# Altium footprint library HEADER-2x7.PcbLib: 1 footprints
Each footprint in its own frame and in the unit in brackets; x right, y up, seen from the top. Pads: shape width x height; smd on the part's side, far side on the other; paste and mask are expansions set on the pad; w line width, h text height; cw(c..) or ccw(c..) is an arc to the next point about the centre after c.
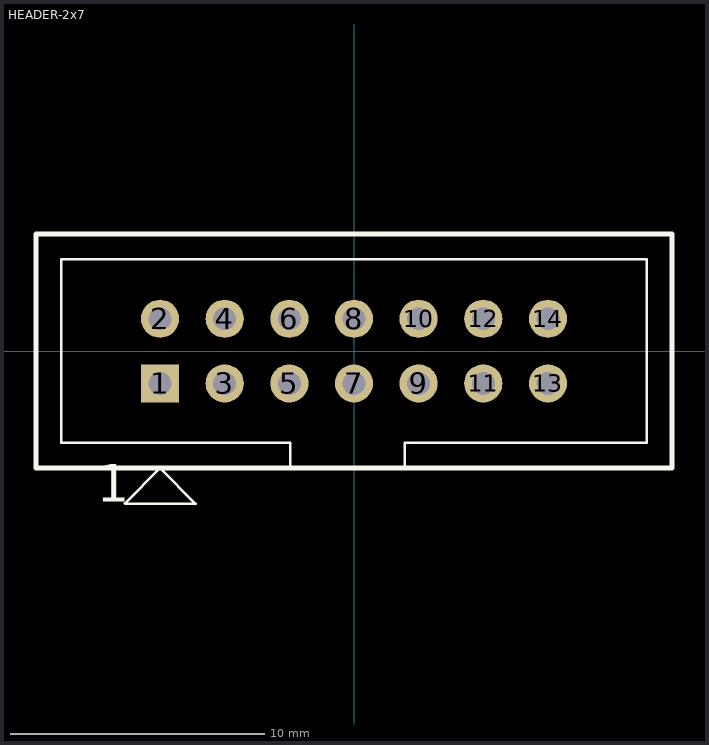
[diagram p0: the footprint, top view; thin cyan lines are the x and y axes]

## HEADER-2x7 [mm] "Header 2.54mm pitch, 2x7 Positions"
height 9.3
pads (14):
  rect 1.5x1.5 hole 0.9: 1(-7.62,-1.27)
  round 1.5 hole 0.9: 2(-7.62,1.27) 3(-5.08,-1.27) 4(-5.08,1.27) 5(-2.54,-1.27) 6(-2.54,1.27) 7(0,-1.27) 8(0,1.27) 9(2.54,-1.27) 10(2.54,1.27) 11(5.08,-1.27) 12(5.08,1.27) 13(7.62,-1.27) 14(7.62,1.27)
Top Overlay:
  lines w0.102: -9,-5.98 -7.62,-4.6 -6.22,-6 -8.98,-6 ; -2.5,-4.6 -2.5,-3.6 -11.5,-3.6 -11.5,3.6 11.5,3.6 11.5,-3.6 2,-3.6 2,-4.6 ; -1.5,-4.6 4.75,-4.6
  lines w0.2: -12.5,-4.6 -12.5,4.6 12.5,4.6 12.5,-4.6 -12.5,-4.6
  text "1" at -10.1,-6.4 h2.54
3D body: height 9.2, standoff 0, extent -12.499,-4.599 12.499,4.599
3D body: height 3.2, standoff 0, extent -11.499,-4.599 11.499,3.599